# Altium footprint library LM2596_MODULE.PcbLib: 1 footprints
Each footprint in its own frame and in the unit in brackets; x right, y up, seen from the top. Pads: shape width x height; smd on the part's side, far side on the other; paste and mask are expansions set on the pad; w line width, h text height; cw(c..) or ccw(c..) is an arc to the next point about the centre after c.
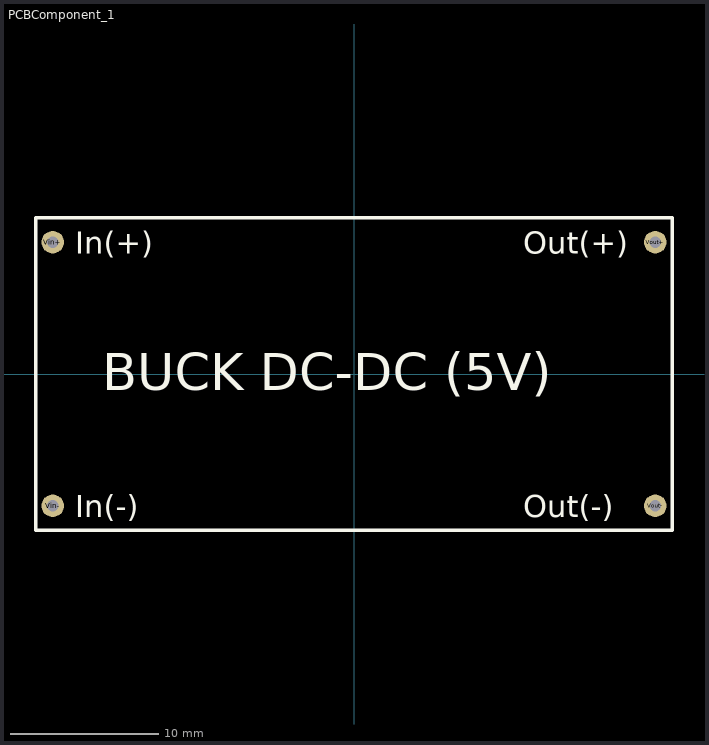
[diagram p0: the footprint, top view; thin cyan lines are the x and y axes]

## PCBComponent_1 [mil]
pads (4):
  round 60 hole 30 paste-99999: Vin+(-800,350) Vin-(-800,-350) Vout+(800,350) Vout-(800,-350)
Top Overlay:
  lines w10: -845,-415 -845,415 845,415 845,-415 -845,-415
  text "BUCK DC-DC (5V)" at -668.5,-43.5 h98.43
  text "In(+)" at -740.32,319.69 h59.06
  text "Out(+)" at 449.69,319.69 h59.06
  text "In(-)" at -740.32,-380.31 h59.06
  text "Out(-)" at 449.69,-380.31 h59.06
3D body "LM2596_pin.stp": height 669.29, standoff -216.54, extent -846.46,-413.39 846.46,413.39